# Altium schematic symbol library MCP2515-I_ST v1.SCHLIB: 1 symbol
Pins are listed as number, name and electrical type; pins without a type are passive.

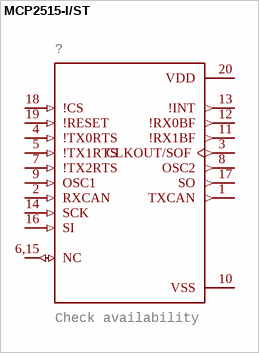
[diagram p0: symbol MCP2515-I/ST]

## MCP2515-I/ST
designator ?, comment Check availability
GateName_1: A; SymbolName_1: MCP2515-I/ST; DESCRIPTION: CANbus Controller CAN 2.0 SPI Interface 20-TSSOP; MF: Microchip; LibraryName: MCP2515-I_ST v1; DeviceSetName: MCP2515-I/ST; Package: SOP65P640X110-20N; AVAILABILITY: In Stock; MP: MCP2515-I/ST; PACKAGE: TSSOP-20 Microchip; PRICE: None; PURCHASE-URL: https://pricing.snapeda.com/search/part/MCP2515-I/ST/?ref=eda
footprint SOP65P640X110-20N
pins: 1 TXCAN (out), 2 RXCAN (in), 3 CLKOUT/SOF (out), 4 !TX0RTS (in), 5 !TX1RTS (in), 6,15 NC (io), 7 !TX2RTS (in), 8 OSC2 (out), 9 OSC1 (in), 10 VSS (power), 11 !RX1BF (out), 12 !RX0BF (out), 13 !INT (out), 14 SCK (in), 16 SI (in), 17 SO (out), 18 !CS (in), 19 !RESET (in), 20 VDD (power)